# Altium schematic symbol library DMG2302UK-7.SchLib: 1 symbol
Pins are listed as number, name and electrical type; pins without a type are passive.

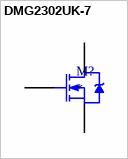
[diagram p0: symbol DMG2302UK-7]

## DMG2302UK-7
designator M?
MfrPartNo: *
pins: 1 G, 2 S, 3 D